# Altium footprint library AND-1CH-SOT23.PcbLib: 1 footprints
Each footprint in its own frame and in the unit in brackets; x right, y up, seen from the top. Pads: shape width x height; smd on the part's side, far side on the other; paste and mask are expansions set on the pad; w line width, h text height; cw(c..) or ccw(c..) is an arc to the next point about the centre after c.
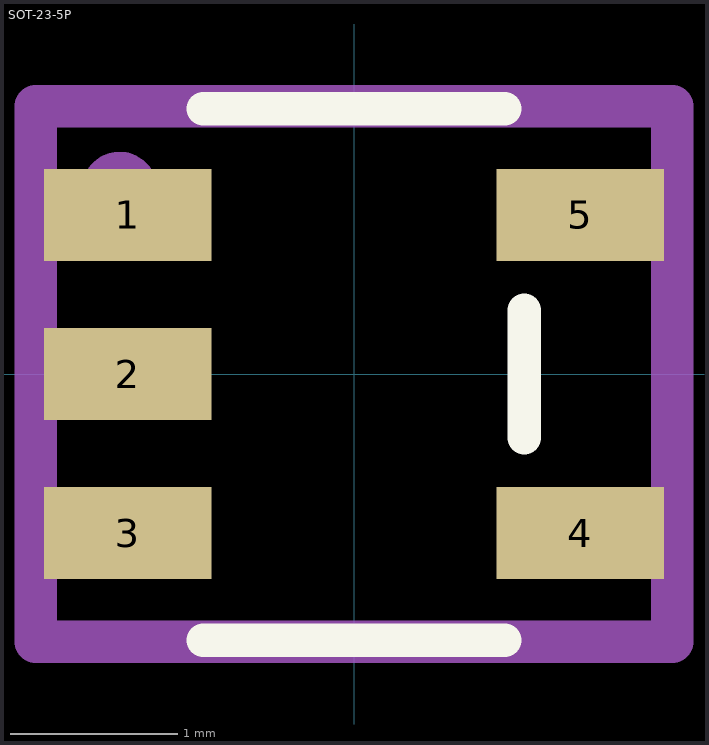
[diagram p0: the footprint, top view; thin cyan lines are the x and y axes]

## SOT-23-5P [mm]
pads (5):
  rect 1x0.55 smd: 1(-1.35,0.95) 2(-1.35,0) 3(-1.35,-0.95) 4(1.35,-0.95) 5(1.35,0.95)
Top Overlay:
  lines w0.2: -0.9,-1.59 0.9,-1.59 ; -0.9,1.585 0.9,1.585 ; 1.016,-0.381 1.016,0.381
Mechanical 29:
  circle w0.254: c-1.4,1.1 r0.1
  lines w0.254: -1.9,-1.6 -1.9,1.6 1.9,1.6 1.9,-1.6 -1.9,-1.6
  text ".Designator" at 0.2,-1.2 h0.6
3D body: height 0.5, standoff 0, extent 1.143,-1.27 1.778,-0.635
3D body: height 0.5, standoff 0, extent 1.143,0.635 1.778,1.27
3D body: height 0.5, standoff 0, extent -1.651,-0.318 -1.016,0.318
3D body: height 0.5, standoff 0, extent -1.651,-1.27 -1.016,-0.635
3D body: height 0.5, standoff 0, extent -1.651,0.635 -1.016,1.27
3D body: height 1.45, standoff 0, extent -1,-1.69 1.116,1.685